# EAGLE library part MCP6N11 (library Bob_Headset)
500 kHz, 800 µA Instrumentation Amplifier
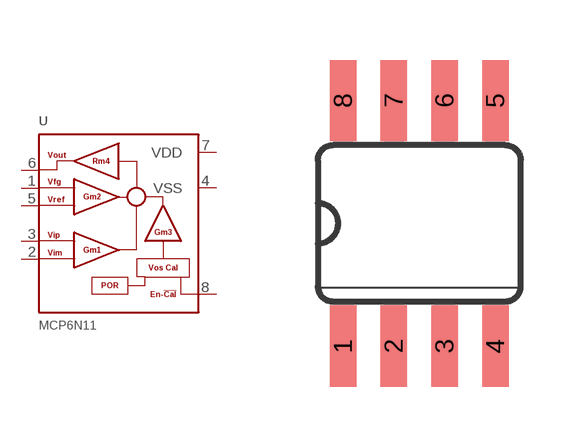
[diagram p0: symbol with the pads of SO08; footprint SO08]

Designator prefix -

## MCP6N11-SO08  [SO08]
1  VFG  in
2  VIM  in
3  VIP  in
4  VSS  pwr
5  VREF  in
6  VOUT  out
7  VDD  pwr
8  EN  in

## Footprint SO08 (pad centres in mm)
Small Outline Package SOIC 150 mil
smd 0.66 x 2.032: 1 -1.905,-3.073; 2 -0.635,-3.073; 3 0.635,-3.073; 4 1.905,-3.073; 5 1.905,3.073; 6 0.635,3.073; 7 -0.635,3.073; 8 -1.905,3.073